# Altium footprint library Pads.PcbLib: 71 footprints (part 2 of 5)
Each footprint in its own frame and in the unit in brackets; x right, y up, seen from the top. Pads: shape width x height; smd on the part's side, far side on the other; paste and mask are expansions set on the pad; w line width, h text height; cw(c..) or ccw(c..) is an arc to the next point about the centre after c.
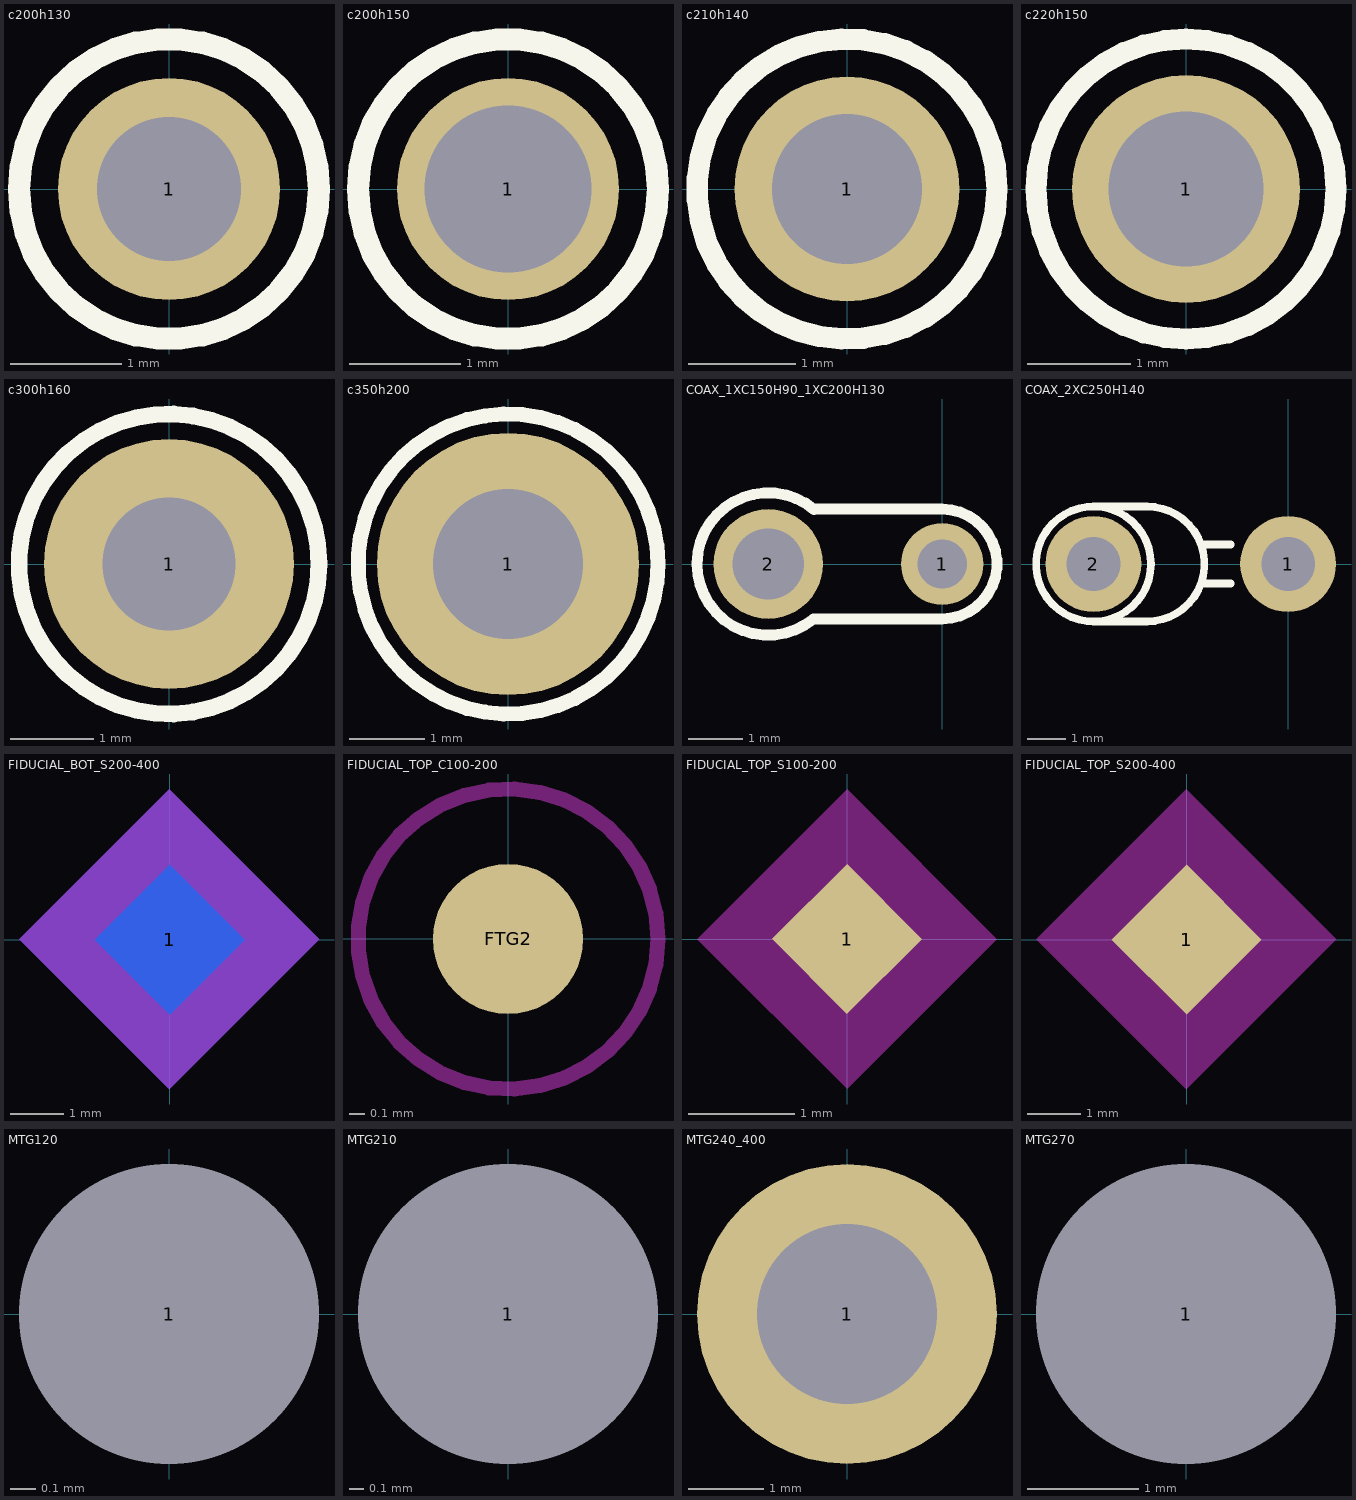
[diagram p1: the footprints below, top view; thin cyan lines are the x and y axes]

## c200h130 [mm] "Plated Through Hole: Hole Dia.=1.3mm Pad Dia.=2.0mm, IPC-7251 Level A"
pads (1):
  round 2 hole 1.3: 1(0,0)
Top Overlay:
  circle w0.2: c0,0 r1.35
Mechanical 14:
  circle w0.1: c0,0 r1.35

## c200h150 [mm] "Plated Through Hole: Hole Dia.=1.5mm Pad Dia.=2.0mm, IPC-7251 Level C"
pads (1):
  round 2 hole 1.5: 1(0,0)
Top Overlay:
  circle w0.2: c0,0 r1.35
Mechanical 14:
  circle w0.1: c0,0 r1.35

## c210h140 [mm] "Plated Through Hole: Hole Dia.=1.4mm Pad Dia.=2.1mm, IPC-7251 Level A"
pads (1):
  round 2.1 hole 1.4: 1(0,0)
Top Overlay:
  circle w0.2: c0,0 r1.4
Mechanical 14:
  circle w0.1: c0,0 r1.4

## c220h150 [mm] "Plated Through Hole: Hole Dia.=1.5mm Pad Dia.=2.2mm, IPC-7251 Level A"
pads (1):
  round 2.2 hole 1.5: 1(0,0)
Top Overlay:
  circle w0.2: c0,0 r1.45
Mechanical 14:
  circle w0.1: c0,0 r1.45

## c300h160 [mm] "Plated Through Hole: Hole Dia.=1.6mm Pad Dia.=3mm"
pads (1):
  round 3 hole 1.6: 1(0,0)
Top Overlay:
  circle w0.2: c0,0 r1.8
Mechanical 14:
  circle w0.1: c0,0 r1

## c350h200 [mm] "Plated Through Hole: Hole Dia.=2mm Pad Dia.=3.5mm"
pads (1):
  round 3.5 hole 2: 1(0,0)
Top Overlay:
  circle w0.2: c0,0 r2
Mechanical 14:
  circle w0.1: c0,0 r1

## COAX_1XC150H90_1XC200H130 [mm] "2 Plated Through Hole For Coaxial Cable Link: 1 X Hole Dia.=0.9mm + 1 X Hole Dia.=1.3mm"
pads (2):
  round 1.5 hole 0.9: 1(0,0)
  round 2 hole 1.3: 2(-3.175,0)
Top Overlay:
  lines w0.2: -2.348,-1.003 cw(c-3.175,0) -2.339,0.996 ; -2.339,-1 0,-1 ccw(c0,0) 0,1 -2.339,1

## COAX_2XC250H140 [mm] "2 Plated Through Hole For Coaxial Cable Link: Hole Dia.=1.4mm Pad Dia.=2.5mm"
pads (2):
  round 2.5 hole 1.4: 1(0,0) 2(-5.08,0)
Top Overlay:
  circle w0.2: c-5.08,0 r1.5
  lines w0.2: -5.08,-1.5 -3.683,-1.5 ccw(c-3.683,0) -3.683,1.5 -5.08,1.5 ; -2.2,-0.508 -1.5,-0.508 ; -2.2,0.508 -1.5,0.508

## FIDUCIAL_BOT_S200-400 [mm] "Scare Fiducial Target, Bottom Layer,  2.0mm, Bot Sloder 4.0mm, Keepout =4.0mm"
pads (1):
  rect 2x2 smd far side rot 45 paste-1.01 mask+1: 1(0,0)
Bottom Layer keep-out:
  region: -2.839,0.011 -0.011,2.839 2.818,0.011 -0.011,-2.818

## FIDUCIAL_TOP_C100-200 [mm] "Round Fiducial Target, Top Layer, 1.0mm, Top Solder 2.0mm, Keepout =2.0mm"
pads (1):
  round 1 smd paste-0.51 mask+0.5: FTG2(0,0)
Top Layer keep-out:
  circle w0.1: c0,0 r1

## FIDUCIAL_TOP_S100-200 [mm] "Square Fiducial Target, Top Layer, 1.0mm, Top Solder 2.0mm, Keepout =2.0mm"
pads (1):
  rect 1x1 smd rot 45 paste-0.51 mask+0.5: 1(0,0)
Top Layer keep-out:
  region: 1.414,0 0,-1.414 -1.414,0 0,1.414

## FIDUCIAL_TOP_S200-400 [mm] "Square Fiducial Target, Top Layer, 2.0mm, Top Solder 4.0mm, Keepout =4.0mm"
pads (1):
  rect 2x2 smd rot 45 paste-0.9 mask+1: 1(0,0)
Top Layer keep-out:
  region: -2.839,0.011 -0.011,2.839 2.818,0.011 -0.011,-2.818

## MTG120 [mm] "Non Plated Through Hole: Hole Dia.=1.2mm"
pads (1):
  round 0.5 hole 1.2 unplated mask+0.35: 1(0,0)

## MTG210 [mm] "Non Plated Through Hole: Hole Dia.=2.1mm"
pads (1):
  round 0.5 hole 2.1 unplated mask+0.8: 1(0,0)

## MTG240_400 [mm] "Plated Through Hole: Hole Dia.=2.4mm Pad Dia.=4.0mm"
pads (1):
  round 4 hole 2.4: 1(0,0)

## MTG270 [mm] "Non Plated Through Hole: Hole Dia.=2.7mm"
pads (1):
  round 0.5 hole 2.7 unplated mask+1.1: 1(0,0)